# Altium footprint library PcbLib2.PcbLib: 15 footprints
Each footprint in its own frame and in the unit in brackets; x right, y up, seen from the top. Pads: shape width x height; smd on the part's side, far side on the other; paste and mask are expansions set on the pad; w line width, h text height; cw(c..) or ccw(c..) is an arc to the next point about the centre after c.
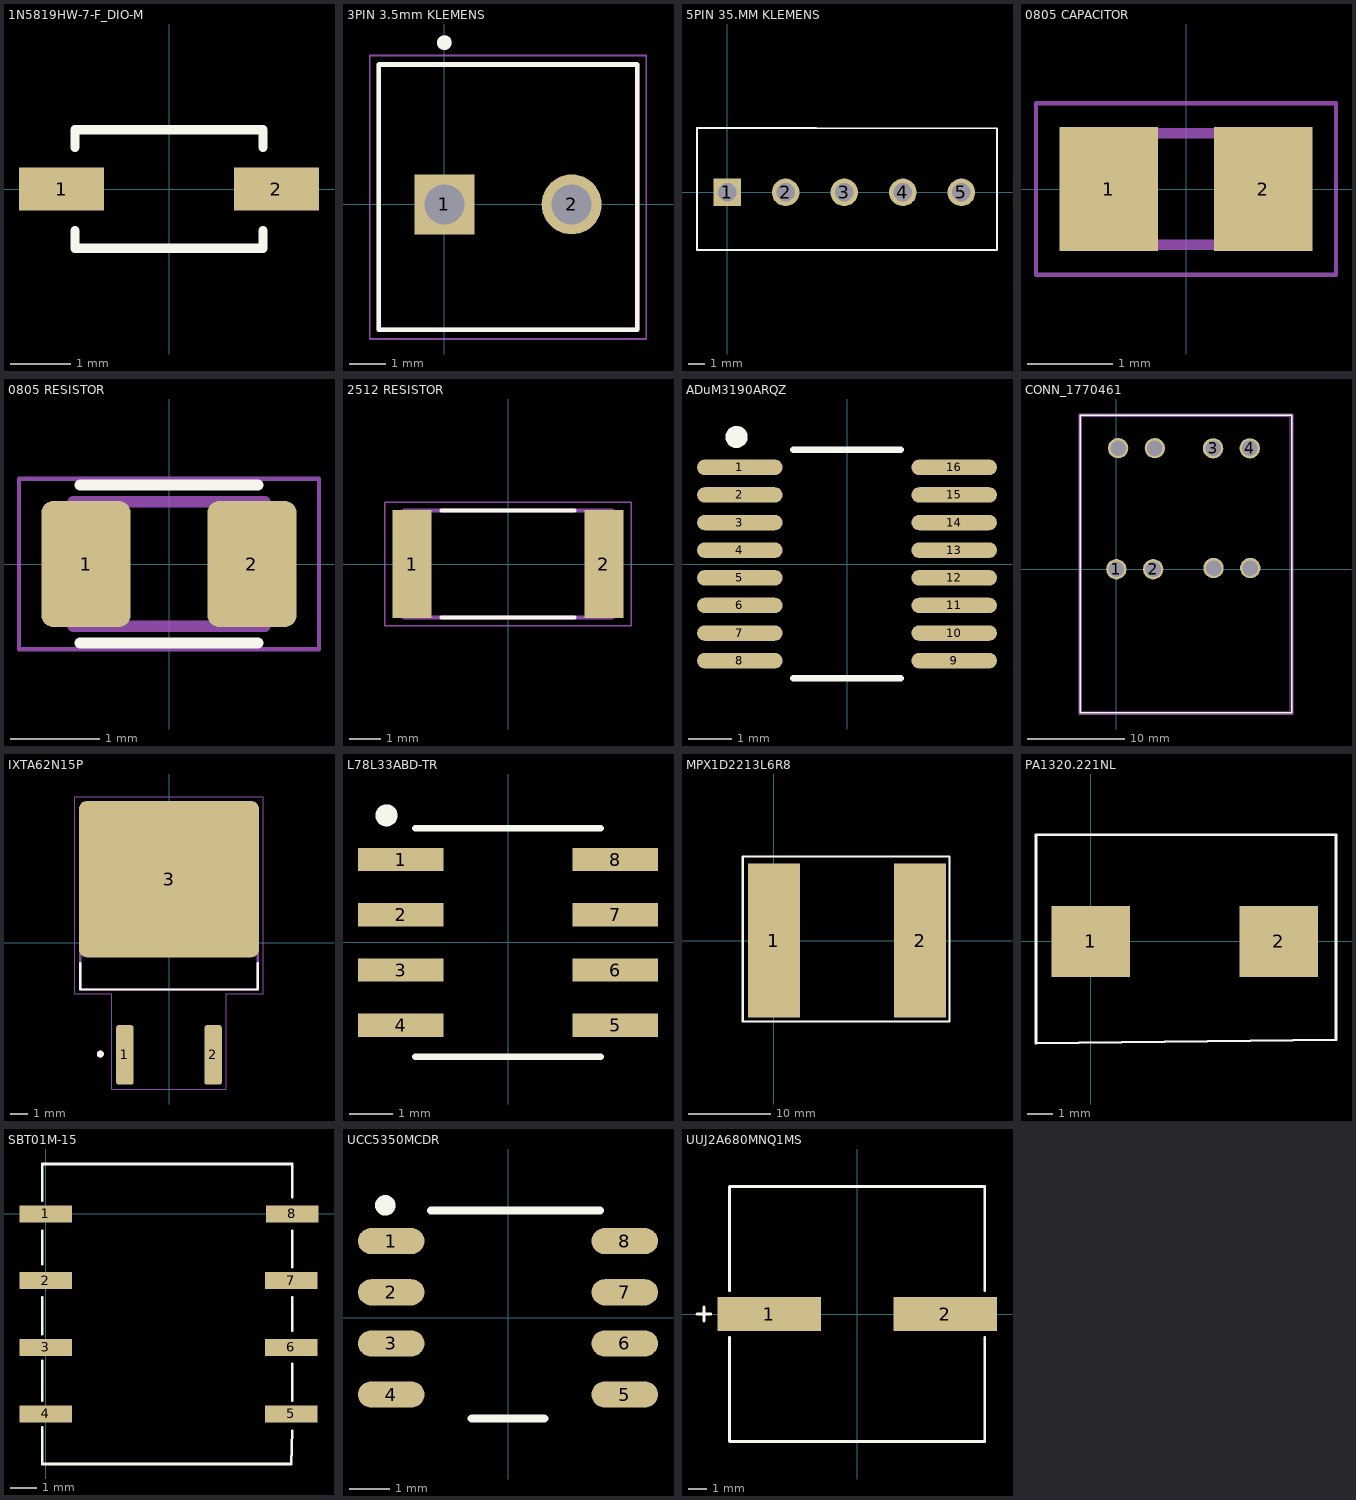
[diagram p0: the footprints below, top view; thin cyan lines are the x and y axes]

## 1N5819HW-7-F_DIO-M [mm]
pads (2):
  rect 1.406x0.71 smd paste+0 mask+0: 1(-1.772,0) 2(1.772,0)
Top Overlay:
  lines w0.152: -1.549,-0.688 -1.549,-0.978 1.549,-0.978 1.549,-0.688 ; -1.549,0.688 -1.549,0.978 1.549,0.978 1.549,0.688
3D body "1N5819HW-7-F_DIO.step": height 1.35, standoff 0, extent -1.925,-0.851 1.925,0.851

## 3PIN 3.5mm KLEMENS [mm]
pads (2):
  rect 1.65x1.65 hole 1.1: 1(0,0)
  round 1.65 hole 1.1: 2(3.5,0)
Top Overlay:
  circle w0.2: c0,4.45 r0.1
  lines w0.127: -1.8,-3.45 5.3,-3.45 5.3,3.85 -1.8,3.85 -1.8,-3.45
Mechanical 13:
  circle w0.2: c0,4.45 r0.1
  lines w0.127: -1.8,-3.45 5.3,-3.45 5.3,3.85 -1.8,3.85 -1.8,-3.45
Mechanical 15:
  lines w0.05: -2.05,-3.7 -2.05,4.1 5.55,4.1 5.55,-3.7 -2.05,-3.7
3D body "c-1546551-2-b-3d.stp": height 9.1, standoff -2.9, extent -1.75,-3.45 5.25,3.85

## 5PIN 35.MM KLEMENS [mm]
pads (5):
  rect 1.65x1.65 hole 1.1: 1(0,0)
  round 1.65 hole 1.1: 2(3.5,0) 3(7,0) 4(10.5,0) 5(14,0)
Top Overlay:
  lines w0.127: -1.8,-3.45 -1.8,3.85 5.3,3.85 16.129,3.81 16.129,-3.45 5.3,-3.45 -1.8,-3.45
Mechanical 13:
  lines w0.127: 5.3,-3.45 -1.8,-3.45 -1.8,3.85 5.3,3.85
3D body "1546551-5.stp": height 9.1, standoff -2.9, extent -1.765,-3.871 15.735,3.429

## 0805 CAPACITOR [mm]
pads (2):
  rect 1.15x1.45 smd: 1(-0.9,0) 2(0.9,0)
Mechanical 13:
  lines w0.127: -1,-0.65 1,-0.65 1,0.65 -1,0.65 -1,-0.65
Mechanical 15:
  lines w0.05: -1.75,-1 1.75,-1 1.75,1 -1.75,1 -1.75,-1
3D body "step_temp.STEP": height 0.94, standoff 0, extent -1.005,-0.625 1.005,0.625

## 0805 RESISTOR [mm]
pads (2):
  rrect25% 1x1.42 smd: 1(-0.935,0) 2(0.935,0)
Top Overlay:
  lines w0.127: -1,-0.89 1,-0.89 ; -1,0.89 1,0.89
Mechanical 13:
  lines w0.127: -1.08,-0.7 -1.08,0.7 1.08,0.7 1.08,-0.7 -1.08,-0.7
Mechanical 15:
  lines w0.05: -1.69,-0.96 -1.69,0.96 1.69,0.96 1.69,-0.96 -1.69,-0.96
3D body "CircuitWorks-RESISTOR 0805.step": height 0.43, standoff -0.03, extent -1,-0.63 1,0.63

## 2512 RESISTOR [mm]
pads (2):
  rect 1.24x3.42 smd: 1(-3.04,0) 2(3.04,0)
Top Overlay:
  lines w0.127: -2.1,-1.7 2.1,-1.7 ; -2.1,1.7 2.1,1.7
Mechanical 13:
  lines w0.127: -3.3,-1.7 -3.3,1.7 3.3,1.7 3.3,-1.7 -3.3,-1.7
Mechanical 15:
  lines w0.05: -3.908,-1.958 -3.908,1.958 3.908,1.958 3.908,-1.958 -3.908,-1.958
3D body "ERJ-1TYJ100U.STEP": height 0.7, standoff 0, extent -3.2,-1.6 3.2,1.6

## ADuM3190ARQZ [mil]
pads (16):
  oval 77.56x13.97 smd paste+0 mask+0: 1(-97,87.5) 2(-97,62.5) 3(-97,37.5) 4(-97,12.5) 5(-97,-12.5) 6(-97,-37.5) 7(-97,-62.5) 8(-97,-87.5) 9(97,-87.5) 10(97,-62.5) 11(97,-37.5) 12(97,-12.5) 13(97,12.5) 14(97,37.5) 15(97,62.5) 16(97,87.5)
Top Overlay:
  circle w10: c-100,115 r5
  lines w6: -48.72,-103.5 48.72,-103.5 ; -48.72,103.5 48.72,103.5
3D body "RQ_16_ADI.step": height 69.09, standoff 0, extent -122.01,-98.5 122.01,98.5

## CONN_1770461 [mil]
pads (8):
  round 83 hole 63 mask+0: 1(0,0) 2(149.61,0) 3(393.7,492) 4(543.31,492) ""(7.09,493.04) ""(156.69,493.04) ""(395.39,5) ""(545,5)
Top Overlay:
  lines w6: -146.6,-584.08 -146.6,626.92 713.4,626.92 713.4,-584.08 -146.6,-584.08
Mechanical 13:
  lines w1: -141.6,-579.08 -141.6,621.92 708.4,621.92 708.4,-579.08 -141.6,-579.08
Mechanical 15:
  lines w6: -151.6,-589.08 718.4,-589.08 718.4,631.92 -151.6,631.92 -151.6,-589.08
3D body: height 10, standoff 0, extent 0,0 10,10
3D body "1770393.stp": height 1181.1, standoff -137.8, extent -135,-581.54 707.52,619.25

## IXTA62N15P [mm]
pads (3):
  rrect25% 0.99x3.42 smd: 1(-2.54,-6.45) 2(2.54,-6.45)
  rrect10% 10.37x8.99 smd paste-6: 3(0,3.66)
Top Overlay:
  circle w0.2: c-3.95,-6.4 r0.1
  lines w0.127: -5.1,-1.155 -5.1,-2.69 5.1,-2.69 5.1,-1.155
Top Paste:
  region: -0.25,3.03 -1.48,3.03 -1.48,4.29 -0.25,4.29
  region: -0.25,4.82 -1.48,4.82 -1.48,6.08 -0.25,6.08
  region: -0.25,6.61 -1.48,6.61 -1.48,7.87 -0.25,7.87
  region: -0.25,1.24 -1.48,1.24 -1.48,2.5 -0.25,2.5
  region: -0.25,-0.55 -1.48,-0.55 -1.48,0.71 -0.25,0.71
  region: 1.48,3.03 0.25,3.03 0.25,4.29 1.48,4.29
  region: 1.48,4.82 0.25,4.82 0.25,6.08 1.48,6.08
  region: 1.48,6.61 0.25,6.61 0.25,7.87 1.48,7.87
  region: 1.48,1.24 0.25,1.24 0.25,2.5 1.48,2.5
  region: 1.48,-0.55 0.25,-0.55 0.25,0.71 1.48,0.71
  region: 3.21,3.03 1.98,3.03 1.98,4.29 3.21,4.29
  region: 3.21,4.82 1.98,4.82 1.98,6.08 3.21,6.08
  region: 3.21,6.61 1.98,6.61 1.98,7.87 3.21,7.87
  region: 3.21,1.24 1.98,1.24 1.98,2.5 3.21,2.5
  region: 3.21,-0.55 1.98,-0.55 1.98,0.71 3.21,0.71
  region: 4.94,3.03 3.71,3.03 3.71,4.29 4.94,4.29
  region: 4.94,4.82 3.71,4.82 3.71,6.08 4.94,6.08
  region: 4.94,6.61 3.71,6.61 3.71,7.87 4.94,7.87
  region: 4.94,1.24 3.71,1.24 3.71,2.5 4.94,2.5
  region: 4.94,-0.55 3.71,-0.55 3.71,0.71 4.94,0.71
  region: -3.71,3.03 -4.94,3.03 -4.94,4.29 -3.71,4.29
  region: -3.71,4.82 -4.94,4.82 -4.94,6.08 -3.71,6.08
  region: -3.71,6.61 -4.94,6.61 -4.94,7.87 -3.71,7.87
  region: -3.71,1.24 -4.94,1.24 -4.94,2.5 -3.71,2.5
  region: -3.71,-0.55 -4.94,-0.55 -4.94,0.71 -3.71,0.71
  region: -1.98,3.03 -3.21,3.03 -3.21,4.29 -1.98,4.29
  region: -1.98,4.82 -3.21,4.82 -3.21,6.08 -1.98,6.08
  region: -1.98,6.61 -3.21,6.61 -3.21,7.87 -1.98,7.87
  region: -1.98,1.24 -3.21,1.24 -3.21,2.5 -1.98,2.5
  region: -1.98,-0.55 -3.21,-0.55 -3.21,0.71 -1.98,0.71
Mechanical 13:
  circle w0.2: c-3.95,-6.4 r0.1
  lines w0.127: -5.1,-2.69 5.1,-2.69 5.1,6.71 -5.1,6.71 -5.1,-2.69
Mechanical 15:
  lines w0.05: -5.435,-2.94 -5.435,8.405 5.435,8.405 5.435,-2.94 3.285,-2.94 3.285,-8.41 -3.285,-8.41 -3.285,-2.94 -5.435,-2.94
3D body "User Library-TO-263_.step": height 4.4, standoff -0.02, extent -4.572,-7.866 4.678,7.866

## L78L33ABD-TR [mm]
pads (8):
  rect 1.97x0.533 smd paste+0 mask+0: 1(-2.464,1.905) 2(-2.464,0.635) 3(-2.464,-0.635) 4(-2.464,-1.905) 5(2.464,-1.905) 6(2.464,-0.635) 7(2.464,0.635) 8(2.464,1.905)
Top Overlay:
  circle w0.254: c-2.794,2.921 r0.127
  lines w0.152: -2.134,-2.629 2.134,-2.629 ; -2.134,2.629 2.134,2.629
3D body "SO-8_STM.step": height 1.76, standoff 0, extent -3.099,-2.464 3.099,2.54

## MPX1D2213L6R8 [mm]
pads (2):
  rect 6.38x18.8 smd: 1(0,0) 2(17.88,0)
Top Overlay:
  lines w0.254: -3.175,10.287 21.463,10.287 21.463,-9.906 -3.81,-9.906 -3.81,10.287 -2.54,10.287
3D body "3D_PCB1_2023-01-22.step": height 14.6, standoff 0, extent -3.795,-10.899 21.279,11.427

## PA1320.221NL [mm]
pads (2):
  rect 3.1x2.8 smd: 1(0,0) 2(7.4,0)
Top Overlay:
  lines w0.1: -2.159,-4.001 -2.159,4.191 9.652,4.191 9.652,-3.874 -2.159,-4.001
3D body "User Library-L-SMD_Pulse_electronic_PA4342_XXXNLT_series__Footprint1.step": height 4, standoff 0, extent -2.067,-5.207 9.433,5.093

## SBT01M-15 [mm]
pads (8):
  rect 2x0.65 smd: 1(0,0) 2(0,-2.54) 3(0,-5.08) 4(0,-7.62) 5(9.35,-7.62) 6(9.35,-5.08) 7(9.35,-2.54) 8(9.398,0)
Top Overlay:
  lines w0.1: -0.127,-8.128 -0.127,-9.525 9.364,-9.525 9.398,-8.255 ; -0.127,-7.112 -0.127,-5.588 ; -0.127,-4.572 -0.127,-3.175 ; -0.127,-1.905 -0.127,-0.635 ; -0.127,0.508 -0.127,1.905 9.398,1.905 9.398,0.635 ; 9.398,-7.112 9.398,-5.715 ; 9.398,-4.445 9.398,-3.175 ; 9.398,-2.032 9.398,-0.635
3D body "User Library-SBT01L-05.step": height 6.33, standoff 0.08, extent -0.901,-10.287 10.299,2.413

## UCC5350MCDR [mm]
pads (8):
  oval 1.65x0.65 smd paste+0 mask+0: 1(-2.9,1.905) 2(-2.9,0.635) 3(-2.9,-0.635) 4(-2.9,-1.905) 5(2.9,-1.905) 6(2.9,-0.635) 7(2.9,0.635) 8(2.9,1.905)
Top Overlay:
  circle w0.254: c-3.048,2.794 r0.127
  lines w0.2: -1.914,2.667 2.286,2.667 ; -0.9,-2.5 0.9,-2.5
3D body "D0008B.stp": height 1.63, standoff 0, extent -3.011,-2.451 3.011,2.451

## UUJ2A680MNQ1MS [mm]
pads (2):
  rect 5.704x1.897 smd paste+0 mask+0: 1(-4.846,0) 2(4.846,0)
Top Overlay:
  lines w0.152: -8.815,0 -8.053,0 ; -8.434,-0.381 -8.434,0.381 ; -7.023,-1.281 -7.023,-7.023 7.023,-7.023 7.023,-1.281 ; -7.023,1.281 -7.023,7.023 7.023,7.023 7.023,1.281
Mechanical 13:
  lines w0.025: -8.815,0 -8.053,0 ; -8.434,-0.381 -8.434,0.381
3D body "EEVFK2A680V.STEP": height 13.8, standoff 0, extent -7.493,-6.75 7.407,6.75